# EAGLE library part STC12C5616AD-28PIN (library TCalc)
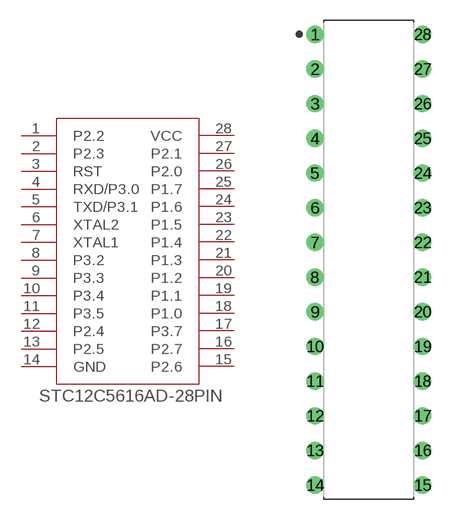
[diagram p0: symbol with the pads of DIP787W45P254L3505H508Q28B; footprint DIP787W45P254L3505H508Q28B]

Designator prefix -

## STC12C5616AD-28PIN  [DIP787W45P254L3505H508Q28B]
1  P2.2
2  P2.3
3  RST
4  RXD/P3.0
5  TXD/P3.1
6  XTAL2
7  XTAL1
8  P3.2
9  P3.3
10  P3.4
11  P3.5
12  P2.4
13  P2.5
14  GND
15  P2.6
16  P2.7
17  P3.7
18  P1.0
19  P1.1
20  P1.2
21  P1.3
22  P1.4
23  P1.5
24  P1.6
25  P1.7
26  P2.0
27  P2.1
28  VCC

## Footprint DIP787W45P254L3505H508Q28B (pad centres in mm)
28-DIP, 2.54 mm (0.10 in) pitch, 7.87 mm (0.31 in) span, 35.05 X 6.60 X 5.08 mm body 28-pin DIP package with 2.54 mm (0.10 in) pitch, 7.87 mm (0.31 in) span with body size 35.05 X 6.60 X 5.08 mm
drill 0.673 pad 1.273: 1 -3.937,16.51; 2 -3.937,13.97; 3 -3.937,11.43; 4 -3.937,8.89; 5 -3.937,6.35; 6 -3.937,3.81; 7 -3.937,1.27; 8 -3.937,-1.27; 9 -3.937,-3.81; 10 -3.937,-6.35; 11 -3.937,-8.89; 12 -3.937,-11.43; 13 -3.937,-13.97; 14 -3.937,-16.51; 15 3.937,-16.51; 16 3.937,-13.97; 17 3.937,-11.43; 18 3.937,-8.89; 19 3.937,-6.35; 20 3.937,-3.81; 21 3.937,-1.27; 22 3.937,1.27; 23 3.937,3.81; 24 3.937,6.35; 25 3.937,8.89; 26 3.937,11.43; 27 3.937,13.97; 28 3.937,16.51